# EAGLE library part AM1702 (library dec-con)
256x8 EPROM
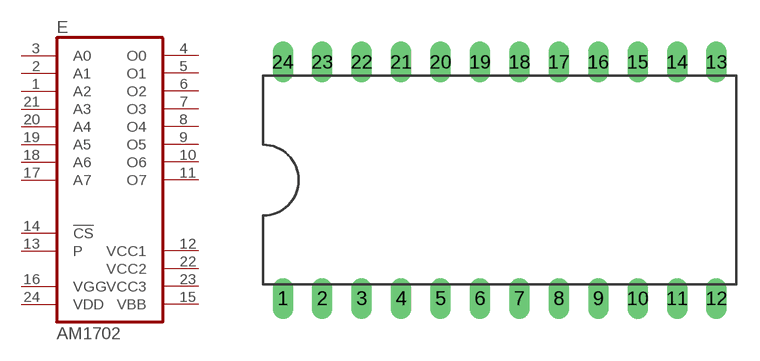
[diagram p60: symbol with the pads of DIL24; footprint DIL24]

Designator prefix E

## AM1702  [DIL24]
1  A2  in
2  A1  in
3  A0  in
4  O0  hiz
5  O1  hiz
6  O2  hiz
7  O3  hiz
8  O4  hiz
9  O5  hiz
10  O6  hiz
11  O7  hiz
12  VCC1  in
13  P  in
14  !CS  in
15  VBB  in
16  VGG  in
17  A7  in
18  A6  in
19  A5  in
20  A4  in
21  A3  in
22  VCC2  in
23  VCC3  in
24  VDD  in

## Footprint DIL24 (pad centres in mm)
24 Pin Wide DIP
drill 0.813 long: 1 -12.7,-7.62; 2 -10.16,-7.62; 3 -7.62,-7.62; 4 -5.08,-7.62; 5 -2.54,-7.62; 6 0,-7.62; 7 2.54,-7.62; 8 5.08,-7.62; 9 7.62,-7.62; 10 10.16,-7.62; 11 12.7,-7.62; 12 15.24,-7.62; 13 15.24,7.62; 14 12.7,7.62; 15 10.16,7.62; 16 7.62,7.62; 17 5.08,7.62; 18 2.54,7.62; 19 0,7.62; 20 -2.54,7.62; 21 -5.08,7.62; 22 -7.62,7.62; 23 -10.16,7.62; 24 -12.7,7.62